# Altium footprint library 叠加式文件柜V04.PcbLib: 39 footprints (part 1 of 3)
Each footprint in its own frame and in the unit in brackets; x right, y up, seen from the top. Pads: shape width x height; smd on the part's side, far side on the other; paste and mask are expansions set on the pad; w line width, h text height; cw(c..) or ccw(c..) is an arc to the next point about the centre after c.
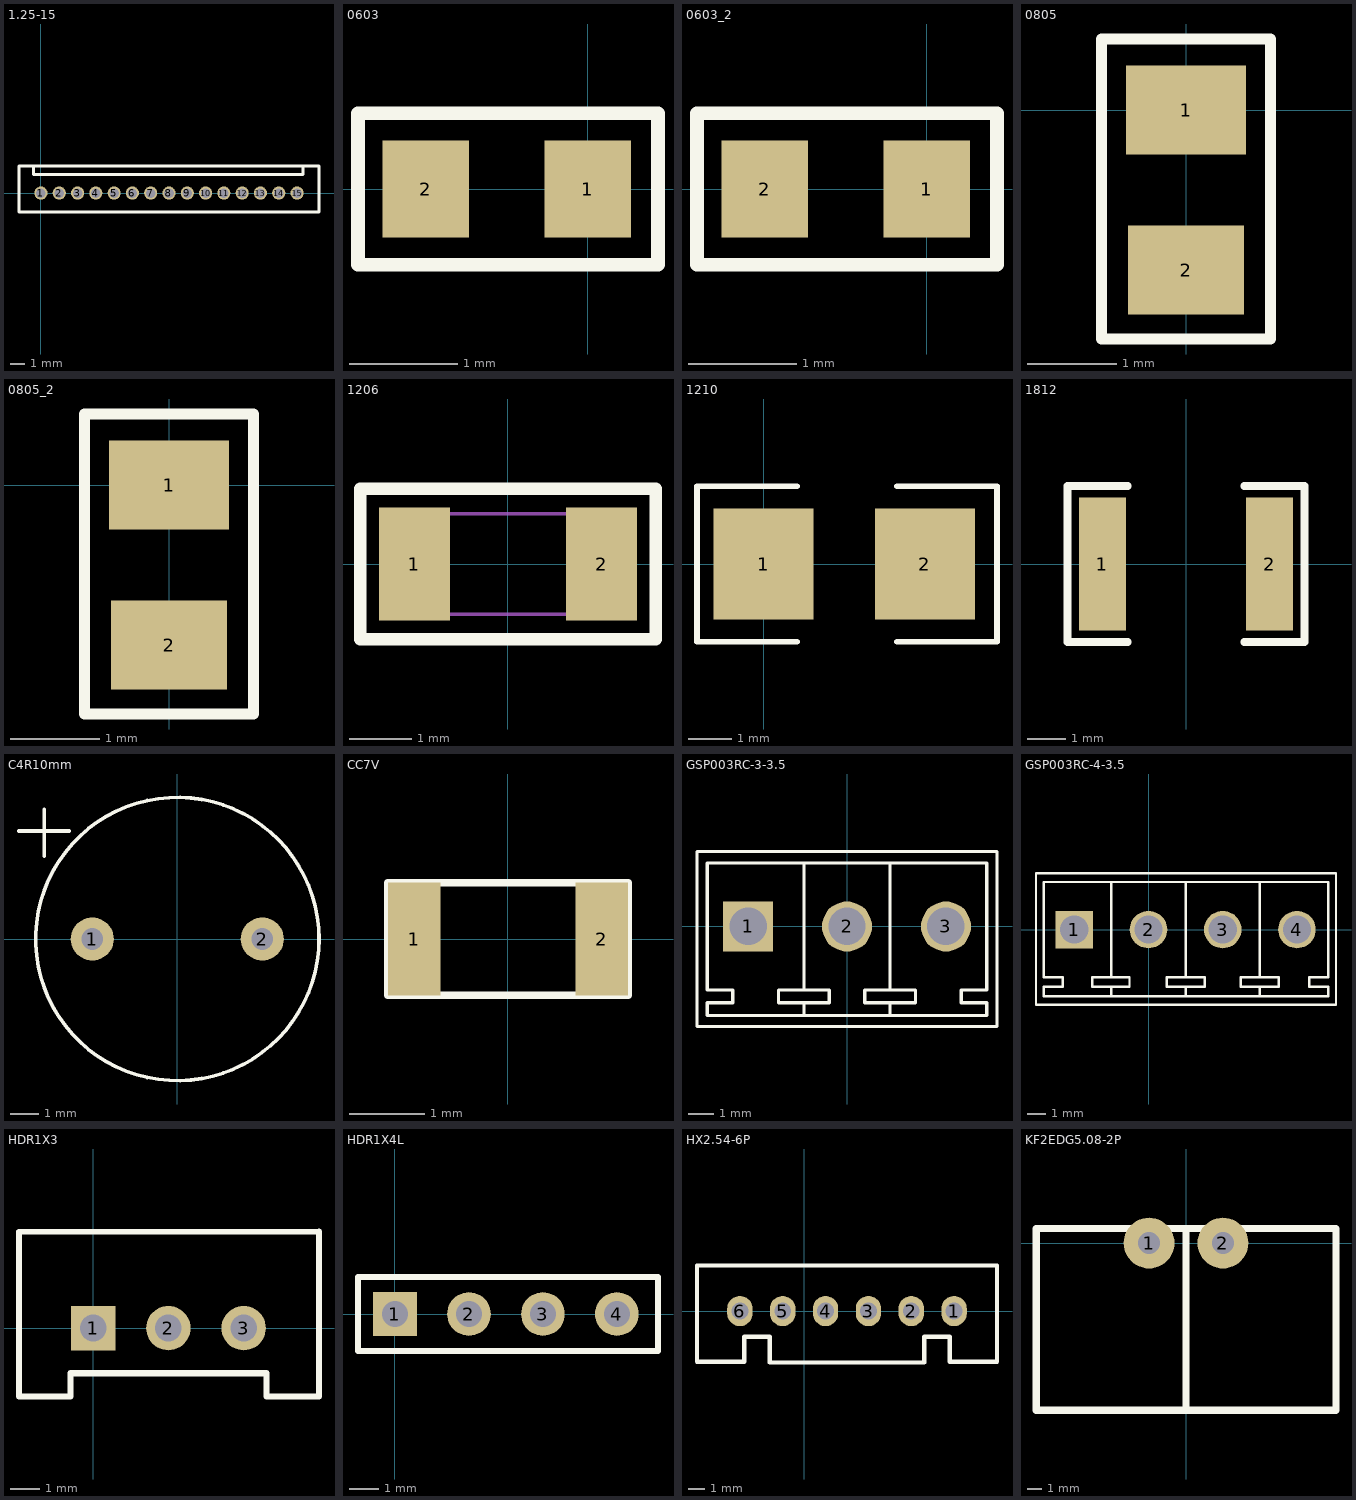
[diagram p0: the footprints below, top view; thin cyan lines are the x and y axes]

## 1.25-15 [mm]
pads (15):
  round 0.9 hole 0.65: 1(0,0) 2(1.25,0) 3(2.5,0) 4(3.75,0) 5(5,0) 6(6.25,0) 7(7.5,0) 8(8.75,0) 9(10,0) 10(11.25,0) 11(12.5,0) 12(13.75,0) 13(15,0) 14(16.25,0) 15(17.5,0)
Top Overlay:
  lines w0.203: -0.508,1.85 -0.508,1.27 17.907,1.27 17.907,1.85 ; -1.5,-1.3 -1.5,1.85 19,1.85 19,-1.3 -1.5,-1.3

## 0603 [mm]
height 15.49
pads (2):
  rect 0.8x0.9 smd: 1(0,0) 2(-1.5,0)
Top Overlay:
  lines w0.127: -2.125,-0.7 0.65,-0.7 0.65,0.7 -2.125,0.7 -2.125,-0.7
3D body "CircuitWorks-CAPACITOR 0603.STEP": height 0.43, standoff -0.43, extent -1.562,-0.411 0.038,0.449

## 0603_2 [mm]
pads (2):
  rect 0.8x0.9 smd: 1(0,0) 2(-1.5,0)
Top Overlay:
  lines w0.127: -2.125,-0.7 -2.125,0.7 0.65,0.7 0.65,-0.7 -2.125,-0.7
3D body "CircuitWorks-CAPACITOR 0603.STEP": height 0.43, standoff -0.43, extent -1.562,-0.411 0.038,0.449

## 0805 [mm]
height 1.5
pads (2):
  rect 1.35x1 smd: 1(0,0)
  rect 1.3x1 smd: 2(0,-1.8)
Top Overlay:
  lines w0.127: -0.95,-2.575 0.95,-2.575 0.95,0.8 -0.95,0.8 -0.95,-2.575

## 0805_2 [mm]
pads (2):
  rect 1.35x1 smd: 1(0,0)
  rect 1.3x1 smd: 2(0,-1.8)
Top Overlay:
  lines w0.127: -0.95,-2.575 0.95,-2.575 0.95,0.8 -0.95,0.8 -0.95,-2.575

## 1206 [mm]
height 1.5
pads (2):
  rect 1.13x1.8 smd: 1(-1.49,0) 2(1.49,0)
Top Overlay:
  lines w0.2: -2.355,-1.2 2.355,-1.2 2.355,1.2 -2.355,1.2 -2.355,-1.2
Mechanical 13:
  lines w0.05: -1.6,-0.8 1.6,-0.8 1.6,0.8 -1.6,0.8 -1.6,-0.8

## 1210 [mil]
height 609.84
pads (2):
  rect 90x100 smd: 1(0,0) 2(145,0)
Top Overlay:
  lines w5: 30,-70 -60,-70 -60,70 30,70 ; 120,-70 210,-70 210,70 120,70

## 1812 [mm]
height 1.5
pads (2):
  rect 1.2x3.42 smd: 1(-2.15,0) 2(2.15,0)
Top Overlay:
  lines w0.2: -1.5,-2.01 -3.05,-2.01 -3.05,2.01 -1.5,2.01 ; 1.5,-2.01 3.05,-2.01 3.05,2.01 1.5,2.01
3D body "R1812.STEP": height 0.59, standoff -0.01, extent -2.251,-1.6 2.249,1.6

## C4R10mm [mil]
height 590.55
pads (2):
  round 60 hole 30: 1(-118.11,0) 2(118.11,0)
Top Overlay:
  circle w5: c0,0 r196.85
  lines w5: -220,150 -150,150 ; -185,115 -185,180

## CC7V [mm]
pads (2):
  rect 0.7x1.5 smd mask+0.051: 1(-1.25,0) 2(1.25,0)
Top Overlay:
  lines w0.1: -1.6,-0.75 -1.6,0.75 1.6,0.75 1.6,-0.75 -1.6,-0.75

## GSP003RC-3-3.5 [mm]
height 7
pads (3):
  rect 2x2 hole 1.5: 1(-3.96,0)
  round 2 hole 1.5: 2(0,0) 3(3.96,0)
Top Overlay:
  lines w0.127: -1.725,-3.556 -1.725,-3.048 ; -1.725,2.54 -1.725,-2.54 ; 1.524,-3.556 5.588,-3.556 5.588,-3.048 4.572,-3.048 4.572,-2.54 5.588,-2.54 5.588,2.54 2.032,2.54 ; 1.725,-3.556 1.725,-3.048 ; 1.725,2.54 1.725,-2.54 ; 2.54,-3.556 -1.524,-3.556 -5.588,-3.556 -5.588,-3.048 -4.572,-3.048 -4.572,-2.54 -5.588,-2.54 -5.588,2.54 -5.08,2.54 -1.524,2.54 2.54,2.54 ; -1.725,-3.048 -0.709,-3.048 -0.709,-2.54 -1.725,-2.54 ; -1.725,-3.048 -2.741,-3.048 -2.741,-2.54 -1.725,-2.54 ; 1.725,-3.048 2.741,-3.048 2.741,-2.54 1.725,-2.54 ; 1.725,-3.048 0.709,-3.048 0.709,-2.54 1.725,-2.54 ; -6,-4 -6,3 6,3 6,-4 -6,-4

## GSP003RC-4-3.5 [mm]
height 7
pads (4):
  rect 2x2 hole 1.5: 1(-3.96,0)
  round 2 hole 1.5: 2(0,0) 3(3.96,0) 4(7.92,0)
Top Overlay:
  lines w0.127: -2.032,-3.048 -1.016,-3.048 -1.016,-2.54 -2.032,-2.54 ; -1.98,-3.556 -1.98,-3.048 -2.996,-3.048 -2.996,-2.54 -1.98,-2.54 -1.98,2.54 ; 1.524,-3.556 5.588,-3.556 9.588,-3.556 9.588,-3.048 8.572,-3.048 8.572,-2.54 9.588,-2.54 9.588,2.54 2.032,2.54 ; 1.98,-3.556 1.98,-3.048 ; 1.98,2.54 1.98,-2.54 ; 2.54,-3.556 -1.524,-3.556 -5.588,-3.556 -5.588,-3.048 -4.572,-3.048 -4.572,-2.54 -5.588,-2.54 -5.588,2.54 -5.08,2.54 -1.524,2.54 2.54,2.54 ; 5.94,-3.556 5.94,-3.048 ; 5.94,2.54 5.94,-2.54 ; 1.98,-3.048 0.964,-3.048 0.964,-2.54 1.98,-2.54 ; 1.98,-3.048 2.996,-3.048 2.996,-2.54 1.98,-2.54 ; 5.94,-3.048 4.924,-3.048 4.924,-2.54 5.94,-2.54 ; 5.94,-3.048 6.956,-3.048 6.956,-2.54 5.94,-2.54 ; -6,-4 6,-4 10,-4 10,3 -6,3 -6,-4

## HDR1X3 [mm] "Connector; Header; 4 Position"
height 1.5
pads (3):
  rect 1.5x1.5 hole 0.9: 1(0,0)
  round 1.5 hole 0.9: 2(2.54,0) 3(5.08,0)
Top Overlay:
  lines w0.2: -2.5,-2.3 -2.5,3.25 7.62,3.25
  lines w0.203: -2.5,-2.3 -0.762,-2.3 -0.762,-1.524 5.842,-1.524 5.842,-2.3 7.62,-2.3 7.62,3.25

## HDR1X4L [mm] "Connector; Header; 5 Position"
height 1.5
pads (4):
  rect 1.5x1.5 hole 0.9: 1(0,0)
  round 1.5 hole 0.9: 2(2.54,0) 3(5.08,0) 4(7.62,0)
Top Overlay:
  lines w0.2: -1.27,-1.27 9.032,-1.27 9.032,1.27 -1.27,1.27 -1.27,-1.27

## HX2.54-6P [mm]
height 10
pads (6):
  oval 1.5x1.8 hole 1: 1(8.89,0) 2(6.35,0) 3(3.81,0) 4(1.27,0) 5(-1.27,0) 6(-3.81,0)
Top Overlay:
  lines w0.254: -6.35,-3 -6.35,2.7 11.43,2.7 11.43,-3 8.636,-3 8.636,-1.524 7.112,-1.524 7.112,-3.048 -2.032,-3.048 -2.032,-1.524 -3.556,-1.524 -3.556,-3 -6.35,-3

## KF2EDG5.08-2P [mm]
pads (2):
  round 3.5 hole 1.5: 1(-2.54,0) 2(2.54,0)
Top Overlay:
  lines w0.508: 0,-11.5 0,1 ; 0,1 -10.31,1 -10.287,1 -10.287,-11.5 10.31,-11.5 10.31,1 0,1